# Altium footprint library BORNERA2_5mm_TORNILLO.PcbLib: 2 footprints
Each footprint in its own frame and in the unit in brackets; x right, y up, seen from the top. Pads: shape width x height; smd on the part's side, far side on the other; paste and mask are expansions set on the pad; w line width, h text height; cw(c..) or ccw(c..) is an arc to the next point about the centre after c.
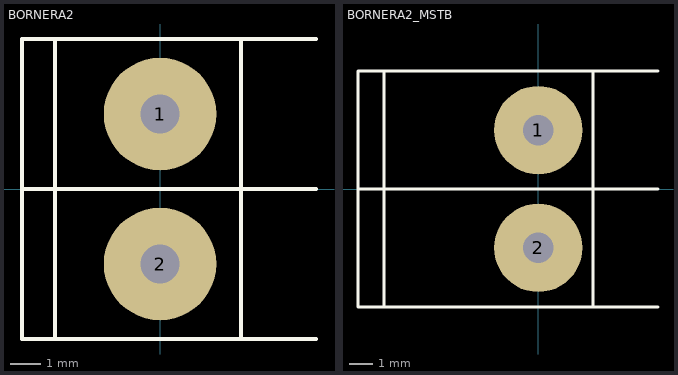
[diagram p0: the footprints below, top view; thin cyan lines are the x and y axes]

## BORNERA2 [mm] "Bornera con Tornillos 5mm separación"
pads (2):
  round 3.75 hole 1.3: 1(0,2.5) 2(0,-2.5)
Top Overlay:
  lines w0.127: -4.6,0 5.2,0 ; -3.5,-5 -3.5,5 ; 2.7,-5 2.7,5 ; 5.2,-5 -4.6,-5 -4.6,5 5.2,5
3D body: height 10, standoff -2.28, extent -3.763,-4.892 3.937,5.607

## BORNERA2_MSTB [mm]
pads (2):
  round 3.75 hole 1.3: 1(0,2.5) 2(0,-2.5)
Top Overlay:
  lines w0.127: -7.648,0 5.08,0 ; -6.548,-5 -6.548,5 ; 2.319,-5 2.319,5 ; 5.08,-5 -7.648,-5 -7.648,5 5.08,5
3D body: height 8.6, standoff -3.5, extent -10.095,-4.978 1.905,5.022